# EAGLE library part PP140-83CBS4.00X9.00 (library NewSDR)
LeaderTech 0.8" x 4" x 9" shield fence with 0.5" pin spacing
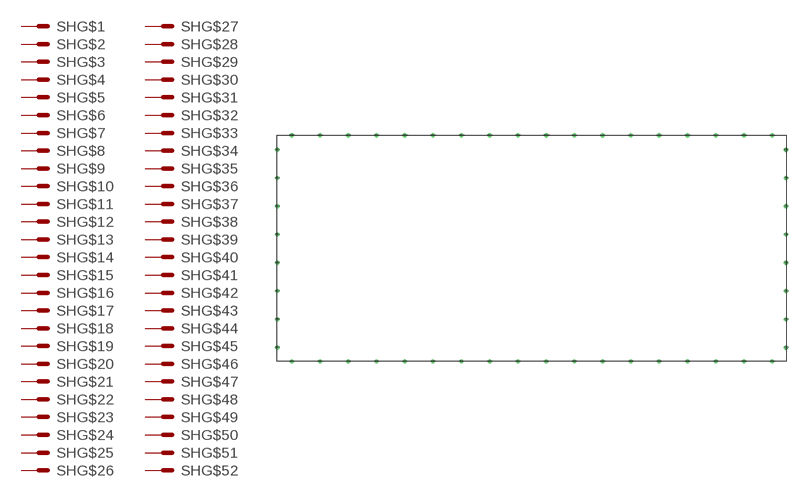
[diagram p187: symbol with the pads of PP140-83CBS4.00X9.00; footprint PP140-83CBS4.00X9.00]

Designator prefix SH; gates G$1=MS G$2=MS G$3=MS G$4=MS G$5=MS G$6=MS G$7=MS G$8=MS G$9=MS G$10=MS G$11=MS G$12=MS G$13=MS G$14=MS G$15=MS G$16=MS G$17=MS G$18=MS G$19=MS G$20=MS G$21=MS G$22=MS G$23=MS G$24=MS G$25=MS G$26=MS G$27=MS G$28=MS G$29=MS G$30=MS G$31=MS G$32=MS G$33=MS G$34=MS G$35=MS G$36=MS G$37=MS G$38=MS G$39=MS G$40=MS G$41=MS G$42=MS G$43=MS G$44=MS G$45=MS G$46=MS G$47=MS G$48=MS G$49=MS G$50=MS G$51=MS G$52=MS

## PP140-83CBS4.00X9.00  [PP140-83CBS4.00X9.00]
GND  G$1:MS  pas
GND1  G$2:MS  pas
GND2  G$3:MS  pas
GND3  G$4:MS  pas
GND4  G$5:MS  pas
GND5  G$6:MS  pas
GND6  G$7:MS  pas
GND7  G$8:MS  pas
GND8  G$9:MS  pas
GND9  G$10:MS  pas
GND10  G$11:MS  pas
GND11  G$12:MS  pas
GND12  G$13:MS  pas
GND13  G$14:MS  pas
GND14  G$15:MS  pas
GND15  G$16:MS  pas
GND16  G$17:MS  pas
GND17  G$18:MS  pas
GND18  G$19:MS  pas
GND19  G$20:MS  pas
GND20  G$21:MS  pas
GND21  G$22:MS  pas
GND22  G$23:MS  pas
GND23  G$24:MS  pas
GND24  G$25:MS  pas
GND25  G$26:MS  pas
GND26  G$27:MS  pas
GND27  G$28:MS  pas
GND28  G$29:MS  pas
GND29  G$30:MS  pas
GND30  G$31:MS  pas
GND31  G$32:MS  pas
GND32  G$33:MS  pas
GND33  G$34:MS  pas
GND34  G$35:MS  pas
GND35  G$36:MS  pas
P$1  G$37:MS  pas
P$2  G$38:MS  pas
P$3  G$39:MS  pas
P$4  G$40:MS  pas
P$5  G$41:MS  pas
P$6  G$42:MS  pas
P$7  G$43:MS  pas
P$8  G$44:MS  pas
P$9  G$45:MS  pas
P$10  G$46:MS  pas
P$11  G$47:MS  pas
P$12  G$48:MS  pas
P$13  G$49:MS  pas
P$14  G$50:MS  pas
P$15  G$51:MS  pas
P$16  G$52:MS  pas

## Footprint PP140-83CBS4.00X9.00 (pad centres in mm)
LeaderTech 0.8" x 4" x 9" shield fence with 0.5" pin spacing
drill 1.27: GND 6.502,0; GND1 19.202,0; GND2 31.902,0; GND3 44.602,0; GND4 57.302,0; GND5 70.002,0; GND6 82.702,0; GND7 95.402,0; GND8 108.102,0; GND9 120.802,0; GND10 133.502,0; GND11 146.202,0; GND12 158.902,0; GND13 171.602,0; GND14 184.302,0; GND15 197.002,0; GND16 209.702,0; GND17 222.402,0; GND18 6.502,-101.6; GND19 19.202,-101.6; GND20 31.902,-101.6; GND21 44.602,-101.6; GND22 57.302,-101.6; GND23 70.002,-101.6; GND24 82.702,-101.6; GND25 95.402,-101.6; GND26 108.102,-101.6; GND27 120.802,-101.6; GND28 133.502,-101.6; GND29 146.202,-101.6; GND30 158.902,-101.6; GND31 171.602,-101.6; GND32 184.302,-101.6; GND33 197.002,-101.6; GND34 209.702,-101.6; GND35 222.402,-101.6; P$1 0,-6.502; P$2 228.6,-6.502; P$3 0,-19.202; P$4 0,-31.902; P$5 0,-44.602; P$6 0,-57.302; P$7 0,-70.002; P$8 0,-82.702; P$9 0,-95.402; P$10 228.6,-19.202; P$11 228.6,-31.902; P$12 228.6,-44.602; P$13 228.6,-57.302; P$14 228.6,-70.002; P$15 228.6,-82.702; P$16 228.6,-95.402